# EAGLE library part NIXIE_TUBES_ISL3178E (library RCQ_Master_HW06)
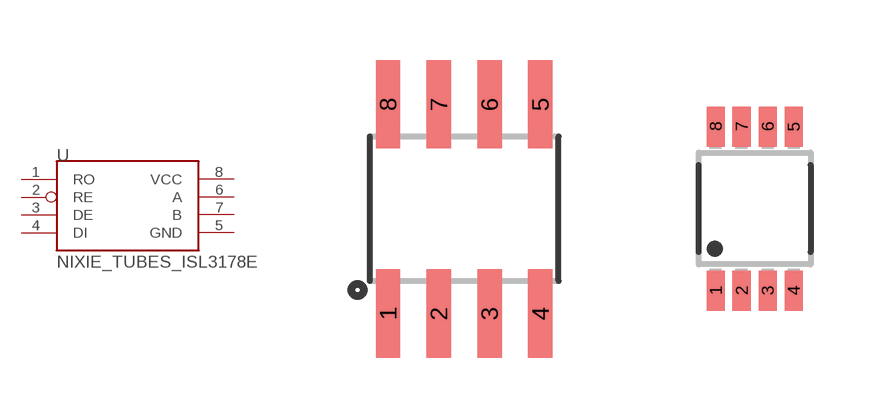
[diagram p0: symbol with the pads of NIXIE_TUBES_SOIC8; footprints NIXIE_TUBES_SOIC8, NIXIE_TUBES_MSOP8]

Designator prefix -

## NIXIE_TUBES_ISL3178E  [NIXIE_TUBES_SOIC8]
1  RO
2  RE
3  DE
4  DI
5  GND
6  A
7  B
8  VCC

## NIXIE_TUBES_ISL3178E_MSOP8  [NIXIE_TUBES_MSOP8]
Pads as for NIXIE_TUBES_SOIC8

## Footprint NIXIE_TUBES_SOIC8 (pad centres in mm)
smd 0.61 x 2.21: 1 -1.905,-2.616; 2 -0.635,-2.616; 3 0.635,-2.616; 4 1.905,-2.616; 5 1.905,2.616; 6 0.635,2.616; 7 -0.635,2.616; 8 -1.905,2.616

## Footprint NIXIE_TUBES_MSOP8 (pad centres in mm)
smd 0.45 x 1: 1 -0.975,-2.05; 2 -0.325,-2.05; 3 0.325,-2.05; 4 0.975,-2.05; 5 0.975,2.05; 6 0.325,2.05; 7 -0.325,2.05; 8 -0.975,2.05